# Altium footprint library Connectors_MemoryCards.PcbLib: 2 footprints
Each footprint in its own frame and in the unit in brackets; x right, y up, seen from the top. Pads: shape width x height; smd on the part's side, far side on the other; paste and mask are expansions set on the pad; w line width, h text height; cw(c..) or ccw(c..) is an arc to the next point about the centre after c.
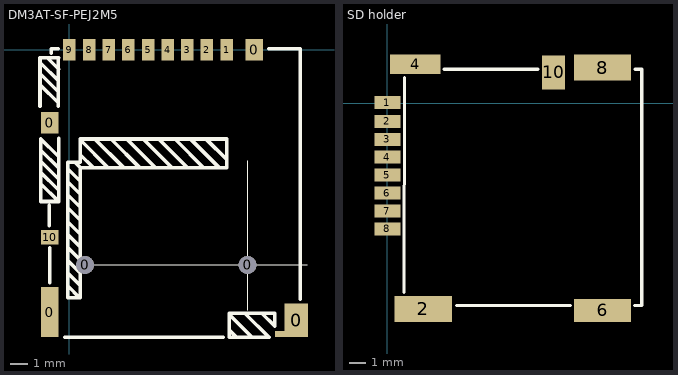
[diagram p0: the footprints below, top view; thin cyan lines are the x and y axes]

## DM3AT-SF-PEJ2M5 [mm] "microSD card socket"
pads (17):
  rect 1x2.8 smd: 0(-1.1,-14.7)
  rect 1x1.2 smd: 0(-1.1,-4.1) 0(10.35,0)
  round 1 hole 1 unplated paste+0 mask+0.102: 0(0.875,-12.05) 0(9.975,-12.05)
  rect 0.55x0.35 smd: 0(11.775,-15.925)
  rect 1.3x1.9 smd: 0(12.7,-15.15)
  rect 0.7x1.2 smd: 1(8.8,0) 2(7.7,0) 3(6.6,0) 4(5.5,0) 5(4.4,0) 6(3.3,0) 7(2.2,0) 8(1.1,0) 9(0,0)
  rect 1x0.8 smd: 10(-1.1,-10.5)
Top Overlay:
  lines w0.01: 0.875,-12.05 1.725,-12.05 13.325,-12.05 ; 9.975,-14.6 9.975,-6.225
  lines w0.2: -1.651,-3.175 -1.651,-0.45 -1.6,-0.45 -0.6,-0.45 -0.635,-0.45 -0.635,-3.175 ; -1.6,-7.5 -0.625,-8.475 ; -1.6,-6.875 -0.625,-7.85 ; -1.6,-6.25 -0.625,-7.225 ; -1.6,-5.625 -0.625,-6.6 ; -1.6,-2 -0.625,-2.975 ; -1.6,-1.375 -0.625,-2.35 ; -1.6,-0.75 -0.625,-1.725 ; -1.25,-0.45 -0.6,-1.1 ; -1.125,-9.85 -1.125,-8.7 ; -1.1,-13.05 -1.1,-11.1 ; -1.025,-0.2 -1.025,0.05 -0.625,0.05 ; -0.625,-5.975 -1.6,-5 -1.6,-8.5 -0.6,-8.5 -0.6,-4.953 ; -0.275,-16.1 8.6,-16.1 ; -0.1,-13.225 0.575,-13.9 0.6,-13.9 ; -0.1,-12.5 0.6,-13.2 ; -0.1,-11.8 0.6,-12.5 ; -0.1,-11.075 0.6,-11.775 ; -0.1,-10.35 0.6,-11.05 ; -0.1,-9.625 0.6,-10.325 ; -0.1,-8.85 0.6,-9.55 ; -0.1,-8.125 0.6,-8.825 ; -0.1,-7.375 -0.1,-7.4 0.6,-8.1 ; -0.1,-6.625 -0.1,-6.675 0.6,-7.375 ; 0.25,-6.3 0.3,-6.3 0.6,-6.6 ; 1.325,-6.6 0.6,-5.875 ; 1.375,-5 1.425,-5 3.025,-6.6 ; 2.15,-6.6 0.6,-5.05 0.6,-5 ; 2.375,-5.05 3.925,-6.6 ; 3.2,-5 4.8,-6.6 ; 4.175,-5.05 5.725,-6.6 ; 5,-5 6.6,-6.6 ; 5.95,-5.05 7.5,-6.6 ; 6.775,-5 8.375,-6.6 ; 7.65,-5 8.8,-6.15 ; 8.95,-15.675 8.95,-15.7 9.325,-16.075 ; 9.775,-14.75 9.825,-14.75 11.175,-16.1 8.95,-16.1 8.95,-14.75 ; 10.225,-16.1 8.95,-14.825 8.95,-14.75 ; 10.725,-14.75 10.775,-14.75 11.5,-15.475 11.5,-14.75 8.95,-14.75 ; 11.15,0.05 12.925,0.05 12.925,-13.975 ; 0.6,-13.9 -0.1,-13.9 -0.1,-6.3 0.6,-6.3 0.6,-5 ; 0.6,-13.9 0.6,-6.6 ; 0.6,-6.6 8.8,-6.6 8.8,-5 0.6,-5 ; 0.6,-5.875 0.6,-5.875
3D body "DM3AT-SF-PEJ2M5.stp": height 1.68, standoff -0.5, extent -0.925,-16.1 12.925,0.05

## SD holder [mm]
pads (13):
  rect 1.6x0.8 smd: 1(0,0.05) 2(0,-1.1) 3(0,-2.2) 4(0,-3.3) 5(0,-4.4) 6(0,-5.5) 7(0,-6.6) 8(0,-7.7)
  rect 3.5x1.6 smd: 2(2.2,-12.6) 8(13.2,2.2)
  rect 3.1x1.2 smd: 4(1.7,2.4)
  rect 3.5x1.4 smd: 6(13.2,-12.7)
  rect 1.4x2.1 smd: 10(10.2,1.9)
Top Overlay:
  lines w0.2: 1.025,-11.575 1.05,1.575 ; 3.475,2.1 9.225,2.1 ; 4.25,-12.4 11.225,-12.4 ; 15.175,-12.4 15.6,-12.4 15.6,2.1 15.2,2.1